# Altium footprint library HabLib.PcbLib: 72 footprints (part 5 of 5)
Each footprint in its own frame and in the unit in brackets; x right, y up, seen from the top. Pads: shape width x height; smd on the part's side, far side on the other; paste and mask are expansions set on the pad; w line width, h text height; cw(c..) or ccw(c..) is an arc to the next point about the centre after c.
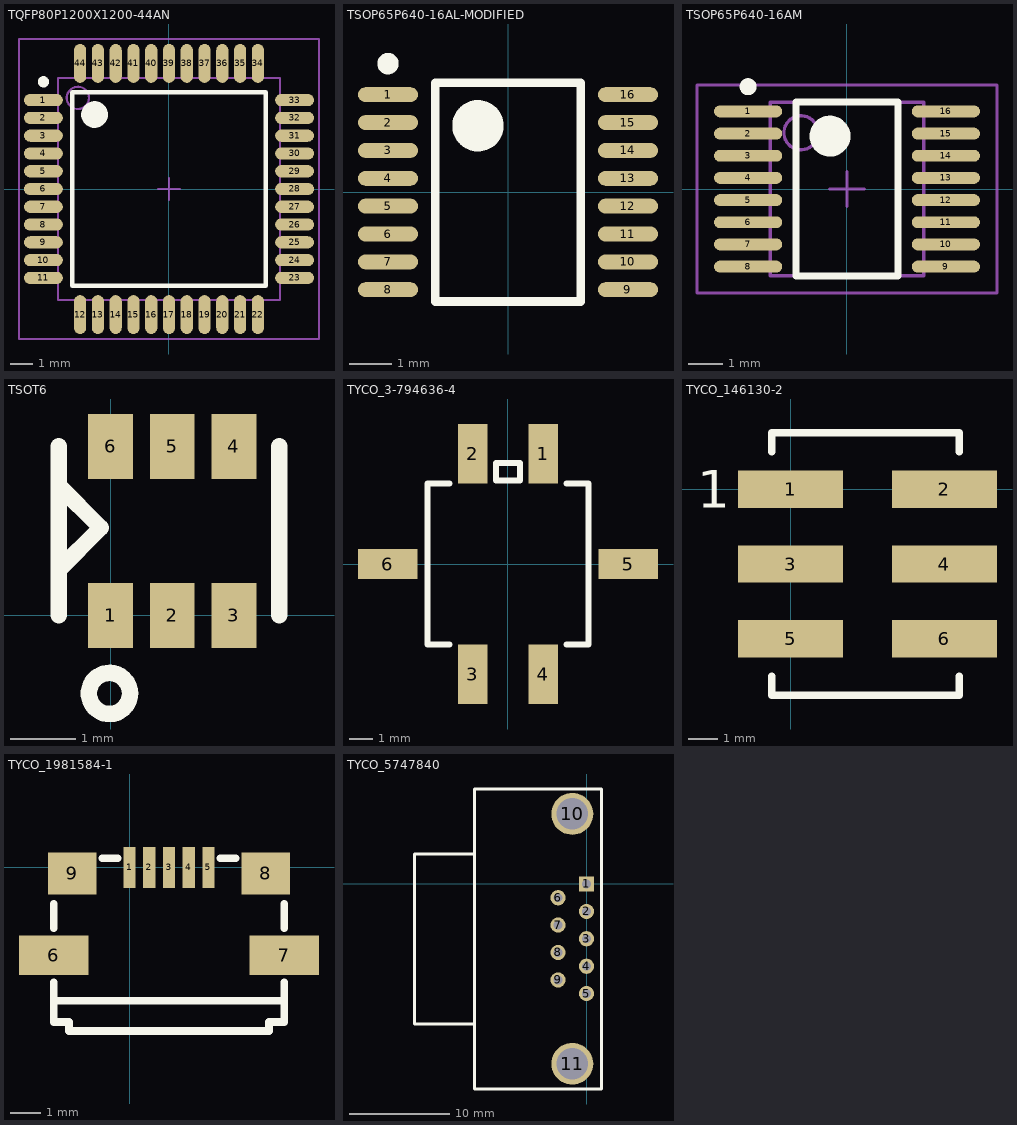
[diagram p4: the footprints below, top view; thin cyan lines are the x and y axes]

## TQFP80P1200X1200-44AN [mm] "Thin QFP, 44-Leads, Body 10x10mm, Pitch 0.8mm, IPC Medium Density"
height 1.2
pads (44):
  oval 1.75x0.55 smd: 1(-5.65,4) 2(-5.65,3.2) 3(-5.65,2.4) 4(-5.65,1.6) 5(-5.65,0.8) 6(-5.65,0) 7(-5.65,-0.8) 8(-5.65,-1.6) 9(-5.65,-2.4) 10(-5.65,-3.2) 11(-5.65,-4) 23(5.65,-4) 24(5.65,-3.2) 25(5.65,-2.4) 26(5.65,-1.6) 27(5.65,-0.8) 28(5.65,0) 29(5.65,0.8) 30(5.65,1.6) 31(5.65,2.4) 32(5.65,3.2) 33(5.65,4)
  oval 0.55x1.75 smd: 12(-4,-5.65) 13(-3.2,-5.65) 14(-2.4,-5.65) 15(-1.6,-5.65) 16(-0.8,-5.65) 17(0,-5.65) 18(0.8,-5.65) 19(1.6,-5.65) 20(2.4,-5.65) 21(3.2,-5.65) 22(4,-5.65) 34(4,5.65) 35(3.2,5.65) 36(2.4,5.65) 37(1.6,5.65) 38(0.8,5.65) 39(0,5.65) 40(-0.8,5.65) 41(-1.6,5.65) 42(-2.4,5.65) 43(-3.2,5.65) 44(-4,5.65)
Top Overlay:
  circle w0.6: c-3.35,3.35 r0.3
  circle w0.25: c-5.65,4.825 r0.125
  lines w0.2: -4.35,-4.35 4.35,-4.35 4.35,4.35 -4.35,4.35 -4.35,-4.35
Mechanical 13:
  circle w0.1: c-4.1,4.1 r0.5
  lines w0.1: -5,-5 5,-5 5,5 -5,5 -5,-5
Mechanical 15:
  lines w0.1: -0.5,0 0.5,0 ; 0,-0.5 0,0.5 ; -6.75,-6.75 6.75,-6.75 6.75,6.75 -6.75,6.75 -6.75,-6.75
3D body: height 1.2, standoff 0, extent -5,-5 5,5

## TSOP65P640-16AL-MODIFIED [mm] "TSOP, 16-Leads, Body 5x4.4mm, Pitch 0.65mm, IPC High Density"
height 1.1
pads (16):
  oval 1.4x0.35 smd: 1(-2.8,2.275) 2(-2.8,1.625) 3(-2.8,0.975) 4(-2.8,0.325) 5(-2.8,-0.325) 6(-2.8,-0.975) 7(-2.8,-1.625) 8(-2.8,-2.275) 9(2.8,-2.275) 10(2.8,-1.625) 11(2.8,-0.975) 12(2.8,-0.325) 13(2.8,0.325) 14(2.8,0.975) 15(2.8,1.625) 16(2.8,2.275)
Top Overlay:
  circle w0.25: c-2.8,3 r0.125
  circle w0.6: c-0.7,1.55 r0.3
  lines w0.2: -1.7,-2.55 -1.7,2.55 1.7,2.55 1.7,-2.55 -1.7,-2.55
3D body: height 1.1, standoff 0, extent -2.25,-2.55 2.25,2.55

## TSOP65P640-16AM [mm] "TSOP, 16-Leads, Body 5x4.4mm, Pitch 0.65mm, IPC Low Density"
height 1.1
pads (16):
  oval 2x0.35 smd: 1(-2.9,2.275) 2(-2.9,1.625) 3(-2.9,0.975) 4(-2.9,0.325) 5(-2.9,-0.325) 6(-2.9,-0.975) 7(-2.9,-1.625) 8(-2.9,-2.275) 9(2.9,-2.275) 10(2.9,-1.625) 11(2.9,-0.975) 12(2.9,-0.325) 13(2.9,0.325) 14(2.9,0.975) 15(2.9,1.625) 16(2.9,2.275)
Top Overlay:
  circle w0.6: c-0.5,1.55 r0.3
  circle w0.25: c-2.9,3 r0.125
  lines w0.2: -1.5,-2.55 1.5,-2.55 1.5,2.55 -1.5,2.55 -1.5,-2.55
Mechanical 13:
  circle w0.1: c-1.35,1.65 r0.5
  lines w0.1: -2.25,-2.55 2.25,-2.55 2.25,2.55 -2.25,2.55 -2.25,-2.55
Mechanical 15:
  lines w0.1: -0.5,0 0.5,0 ; 0,-0.5 0,0.5 ; -4.4,-3.05 4.4,-3.05 4.4,3.05 -4.4,3.05 -4.4,-3.05
3D body: height 1.1, standoff 0, extent -2.25,-2.55 2.25,2.55

## TSOT6 [mm] "TSOT 6 PIN"
pads (6):
  rect 0.69x1 smd: 1(0,0) 2(0.95,0) 3(1.9,0) 4(1.9,2.6) 5(0.95,2.6) 6(0,2.6)
Top Overlay:
  circle w0.254: c-0.016,-1.2 r0.316
  lines w0.254: -0.8,0 -0.8,2.6 ; -0.8,0.7 -0.15,1.35 -0.8,2 ; 2.6,0 2.6,2.6
3D body: height 1, standoff 0, extent -0.8,0 2.6,2.6

## TYCO_3-794636-4 [mm] "HDR, MFG: TYCO, PN: 3-794636-4, HDR 2X2 MINI MATE N LOK"
pads (6):
  rect 1.27x2.54 smd: 1(1.5,4.7) 2(-1.5,4.7) 3(-1.5,-4.7) 4(1.5,-4.7)
  rect 2.54x1.27 smd: 5(5.135,0) 6(-5.135,0)
Top Overlay:
  lines w0.254: -2.5,-3.43 -3.43,-3.43 -3.43,3.43 -2.5,3.43 ; 2.5,-3.43 3.43,-3.43 3.43,3.43 2.5,3.43 ; -0.508,3.556 -0.508,4.318 0.508,4.318 0.508,3.556 -0.508,3.556
3D body: height 9, standoff 1, extent 1.185,1.383 1.818,2.017
3D body: height 9, standoff 1, extent -1.815,1.383 -1.182,2.017
3D body: height 9, standoff 1, extent 1.185,-1.917 1.818,-1.283
3D body: height 9, standoff 1, extent -1.815,-1.917 -1.182,-1.283
3D body: height 9, standoff 1, extent -0.2,0.3 0.2,2.9
3D body: height 9, standoff 1, extent -0.2,-2.8 0.2,-0.3
3D body: height 9, standoff 1, extent -0.02,-3.389 3.378,3.411
3D body: height 9, standoff 1, extent -3.4,-3.4 -0.002,3.4
3D body: height 1, standoff 0, extent -3.4,-3.4 3.4,3.4

## TYCO_146130-2 [mm]
pads (6):
  rect 3.56x1.27 smd: 1(0,0) 2(5.21,0) 3(0,-2.54) 4(5.21,-2.54) 5(0,-5.08) 6(5.21,-5.08)
Top Overlay:
  lines w0.254: -0.635,-6.35 -0.635,-6.985 5.715,-6.985 5.715,-6.35 ; -0.635,1.27 -0.635,1.905 5.715,1.905 5.715,1.27
  text "1" at -3.175,-0.635 h1.27
3D body: height 1.27, standoff 0, extent 0,-6.35 5.08,1.27
3D body: height 6.35, standoff 1.27, extent 3.495,-2.857 4.128,-2.223
3D body: height 6.35, standoff 1.27, extent 3.495,-0.317 4.128,0.317
3D body: height 6.35, standoff 1.27, extent 3.495,-5.397 4.128,-4.763
3D body: height 6.35, standoff 1.27, extent 0.955,-5.397 1.588,-4.763
3D body: height 6.35, standoff 1.27, extent 0.955,-2.857 1.588,-2.223
3D body: height 6.35, standoff 1.27, extent 0.955,-0.317 1.588,0.317

## TYCO_1981584-1 [mm] "CONN, MICRO USB TYPE AB"
pads (9):
  rect 0.4x1.35 smd: 1(0,0) 2(0.65,0) 3(1.3,0) 4(1.95,0) 5(2.6,0)
  rect 2.3x1.3 smd: 6(-2.5,-2.9) 7(5.1,-2.9)
  rect 1.6x1.4 smd: 8(4.5,-0.2) 9(-1.9,-0.2)
Top Overlay:
  lines w0.254: -2.5,-3.8 -2.5,-4.4 ; -2.5,-2 -2.5,-1.2 ; -0.9,0.3 -0.4,0.3 ; 3,0.3 3.5,0.3 ; 5.1,-3.8 5.1,-4.4 ; 5.1,-2 5.1,-1.2 ; -2.5,-4.4 -2.5,-5.1 -2,-5.1 -2,-5.4 ; -2.5,-4.4 5.1,-4.4 ; -2,-5.4 4.6,-5.4 4.6,-5.1 5.1,-5.1 5.1,-4.4 ; -2,-5.4 -2,-5.4
3D body: height 3, standoff 0, extent -2.5,-5.5 5.1,0.3

## TYCO_5747840 [mil] "DB9 RIGHT ANGLE"
pads (11):
  rect 60x60 hole 35: 1(0,0)
  round 60 hole 35: 2(0,-107.87) 3(0,-215.75) 4(0,-323.62) 5(0,-431.5) 6(-111.81,-53.94) 7(-111.81,-161.81) 8(-111.81,-269.69) 9(-111.81,-377.56)
  round 164.96 hole 124.8: 10(-55.91,275.98) 11(-55.91,-707.87)
Top Overlay:
  lines w10: -677.17,-551.18 -677.17,118.11 -440.94,118.11 -440.94,-551.18 -677.17,-551.18 ; -440.94,-807.09 -440.94,374.02 59.06,374.02 59.06,-807.09 -440.94,-807.09
3D body: height 89.76, standoff 0, extent -440.94,-807.09 59.06,374.02
3D body: height 379.92, standoff 89.76, extent -354.33,-551.18 59.06,118.11
3D body: height 485.04, standoff 89.76, extent -433.07,-807.09 -354.33,374.02
3D body: height 379.92, standoff 89.76, extent -677.17,-551.18 -440.94,118.11
3D body: height 485.04, standoff 89.76, extent -440.94,-807.09 -433.07,374.02